# EAGLE library part MSX_CON (library msx-con)
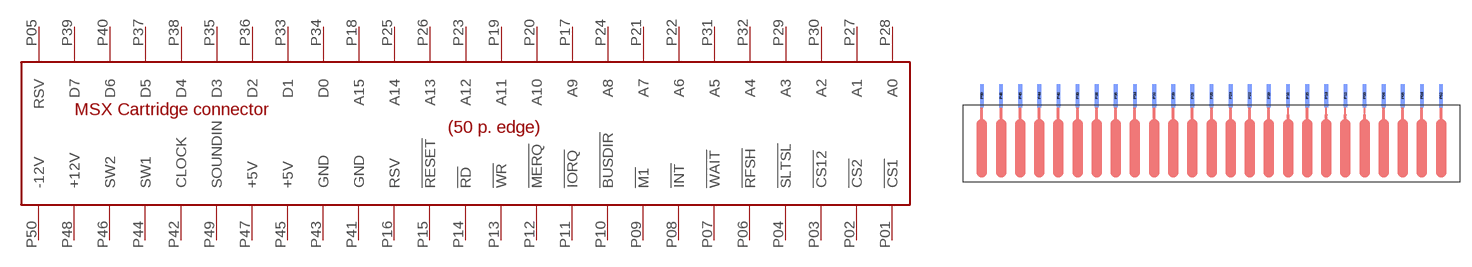
[diagram p1: symbol with the pads of MSX_CON; footprint MSX_CON]

Designator prefix EDG

## MSX_CON  [MSX_CON]
P01  !CS1  out
P02  !CS2  out
P03  !CS12  out
P04  !SLTSL  out
P05  RSV  nc
P06  !RFSH  out
P07  !WAIT  in
P08  !INT  in
P09  !M1  out
P10  !BUSDIR  in
P11  !IORQ  out
P12  !MERQ  out
P13  !WR  out
P14  !RD  out
P15  !RESET  out
P16  RSV  nc
P17  A9  out
P18  A15  out
P19  A11  out
P20  A10  out
P21  A7  out
P22  A6  out
P23  A12  out
P24  A8  out
P25  A14  out
P26  A13  out
P27  A1  out
P28  A0  out
P29  A3  out
P30  A2  out
P31  A5  out
P32  A4  out
P33  D1
P34  D0
P35  D3
P36  D2
P37  D5
P38  D4
P39  D7
P40  D6
P41  GND  sup
P42  CLOCK  out
P43  GND  sup
P44  SW1  pas
P45  +5V  sup
P46  SW2  pas
P47  +5V  sup
P48  +12V  sup
P49  SOUNDIN  in
P50  -12V  sup

## Footprint MSX_CON (pad centres in mm)
smd 0.508 x 3.048 bottom: P01 30.48,11.43; P03 27.94,11.43; P05 25.4,11.43; P07 22.86,11.43; P09 20.32,11.43; P11 17.78,11.43; P13 15.24,11.43; P15 12.7,11.43; P17 10.16,11.43; P19 7.62,11.43; P21 5.08,11.43; P23 2.54,11.43; P25 0,11.43; P27 -2.54,11.43; P29 -5.08,11.43; P31 -7.62,11.43; P33 -10.16,11.43; P35 -12.7,11.43; P37 -15.24,11.43; P39 -17.78,11.43; P41 -20.32,11.43; P43 -22.86,11.43; P45 -25.4,11.43; P47 -27.94,11.43; P49 -30.48,11.43
smd 0.508 x 3.048: P02 30.48,11.43; P04 27.94,11.43; P06 25.4,11.43; P08 22.86,11.43; P10 20.32,11.43; P12 17.78,11.43; P14 15.24,11.43; P16 12.7,11.43; P18 10.16,11.43; P20 7.62,11.43; P22 5.08,11.43; P24 2.54,11.43; P26 0,11.43; P28 -2.54,11.43; P30 -5.08,11.43; P32 -7.62,11.43; P34 -10.16,11.43; P36 -12.7,11.43; P38 -15.24,11.43; P40 -17.78,11.43; P42 -20.32,11.43; P44 -22.86,11.43; P46 -25.4,11.43; P48 -27.94,11.43; P50 -30.48,11.43